# Altium integrated library CC2541F256RHAR.IntLib: 1 symbol
Pins are listed as number, name and electrical type; pins without a type are passive.

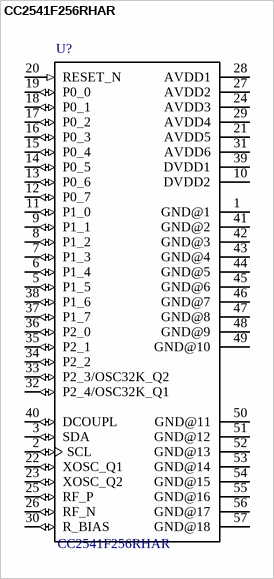
[diagram p0: symbol CC2541F256RHAR]

## CC2541F256RHAR
designator U?
/ SimpleLink Bluetooth Smart and Proprietary Wireless MCU 40-VQFN -40 to 85 /; MF: Texas Instruments; MP: CC2541F256RHAR; Availability: Unavailable; SnapEDA_Link: https://www.snapeda.com/parts/CC2541F256RHAR/Texas%20Instruments/view-part/?ref=snap; Package: VFQFN-40 Texas Instruments; Price: None; Value: *
footprint *QFN50P600X600X100-41N
pins: 1 GND@1 (power), 2 SCL (io), 3 SDA (io), 5 P1_5 (io), 6 P1_4 (io), 7 P1_3 (io), 8 P1_2 (io), 9 P1_1 (io), 10 DVDD2 (power), 11 P1_0 (io), 12 P0_7 (io), 13 P0_6 (io), 14 P0_5 (io), 15 P0_4 (io), 16 P0_3 (io), 17 P0_2 (io), 18 P0_1 (io), 19 P0_0 (io), 20 RESET_N (in), 21 AVDD5 (power), 22 XOSC_Q1 (io), 23 XOSC_Q2 (io), 24 AVDD3 (power), 25 RF_P (io), 26 RF_N (io), 27 AVDD2 (power), 28 AVDD1 (power), 29 AVDD4 (power), 30 R_BIAS (io), 31 AVDD6 (power), 32 P2_4/OSC32K_Q1 (io), 33 P2_3/OSC32K_Q2 (io), 34 P2_2 (io), 35 P2_1 (io), 36 P2_0 (io), 37 P1_7 (io), 38 P1_6 (io), 39 DVDD1 (power), 40 DCOUPL (io), 41 GND@2 (power), 42 GND@3 (power), 43 GND@4 (power), 44 GND@5 (power), 45 GND@6 (power), 46 GND@7 (power), 47 GND@8 (power), 48 GND@9 (power), 49 GND@10 (power), 50 GND@11 (power), 51 GND@12 (power), 52 GND@13 (power), 53 GND@14 (power), 54 GND@15 (power), 55 GND@16 (power), 56 GND@17 (power), 57 GND@18 (power)